# Altium footprint library INDP123123X100N.PcbLib: 1 footprints
Each footprint in its own frame and in the unit in brackets; x right, y up, seen from the top. Pads: shape width x height; smd on the part's side, far side on the other; paste and mask are expansions set on the pad; w line width, h text height; cw(c..) or ccw(c..) is an arc to the next point about the centre after c.
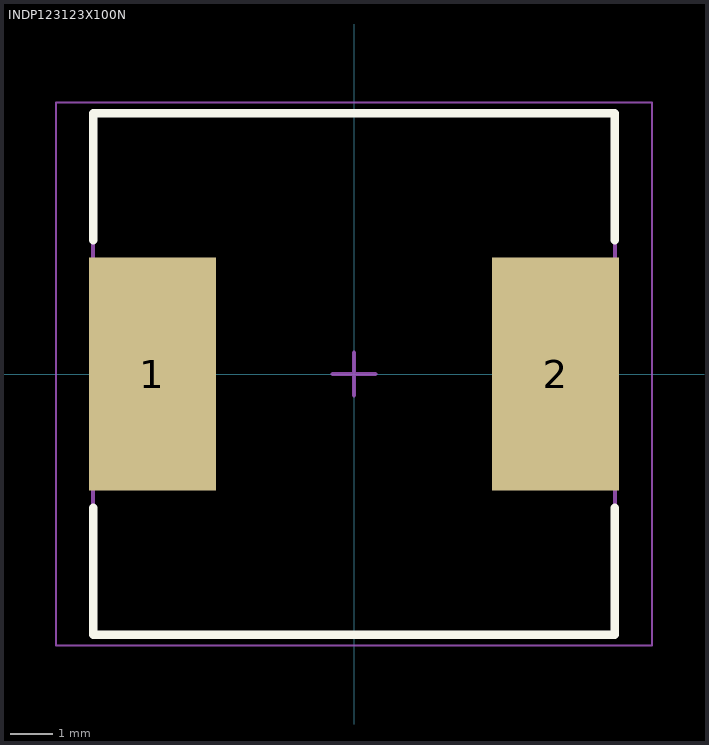
[diagram p0: the footprint, top view; thin cyan lines are the x and y axes]

## INDP123123X100N [mm] "Precision Wire Wound Inductor, 2-Leads, Body 12,30x12,30mm, IPC Medium Density"
height 10
pads (2):
  rect 3x5.5 smd: 1(-4.75,0) 2(4.75,0)
Top Overlay:
  lines w0.2: -6.15,-3.15 -6.15,-6.15 6.15,-6.15 6.15,-3.15 ; -6.15,3.15 -6.15,6.15 6.15,6.15 6.15,3.15
Mechanical 13:
  lines w0.1: -6.15,-6.15 -6.15,6.15 6.15,6.15 6.15,-6.15 -6.15,-6.15
Mechanical 15:
  lines w0.05: -7.025,-6.4 -7.025,6.4 7.025,6.4 7.025,-6.4 -7.025,-6.4
  lines w0.1: -0.5,0 0.5,0 ; 0,-0.5 0,0.5
3D body: height 10.26, standoff 0.06, extent -6.277,-6.15 6.023,6.15